# Altium schematic symbol library testpoint.SchLib: 2 symbols
Pins are listed as number, name and electrical type; pins without a type are passive.

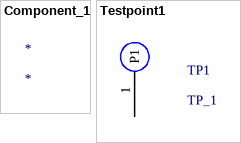
[diagram p0: symbols Component_1 to Testpoint1]

## Component_1
designator *

## Testpoint1
designator TP1, comment TP_1  (no BOM)
footprint Testpoint
pins: 1 P1